# EAGLE library part LT3474-1 (library PowerProducts)
Step-Down 1A LED Driver
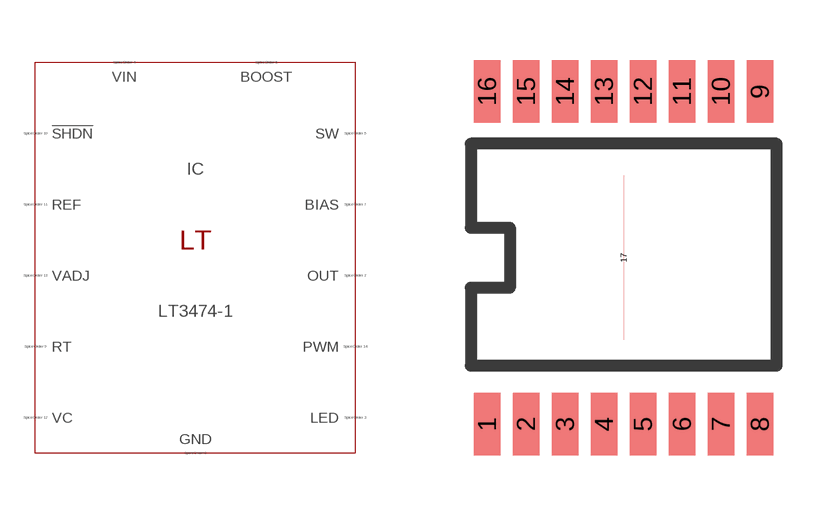
[diagram p39: symbol with the pads of TSSOP16BA(FE); footprint TSSOP16BA(FE)]

Designator prefix IC

## LT3474-1 (SPICEMODEL: LT1762.lib; SPICEPREFIX: X; VALUE2: LT1762)  [TSSOP16BA(FE)]
2  OUT  pas
3  LED  pas
4  VIN  pas
5  SW  pas
6  BOOST  pas
7  BIAS  pas
8  GND  pas
9  RT  pas
10  !SHDN  pas
11  REF  pas
12  VC  pas
13  VADJ  pas
14  PWM  pas
15  GND  pas
17  GND  pas

## Footprint TSSOP16BA(FE) (pad centres in mm)
Package generated from: TSSOP16BA(FE).asc (!PADS-POWERPCB-V5.0-BASIC! DESIGN DATABASE ASCII FILE 1.0) with :import-pads-powerpcb-v5.ulp Version 1.0.1 at 04.10.2012 14:11:39
smd 0.66 x 1.575: 1 -3.413,-4.162; 2 -2.438,-4.162; 3 -1.462,-4.162; 4 -0.487,-4.162; 5 0.487,-4.162; 6 1.462,-4.162; 7 2.438,-4.162; 8 3.413,-4.162; 9 3.413,4.162; 10 2.438,4.162; 11 1.462,4.162; 12 0.487,4.162; 13 -0.487,4.162; 14 -1.462,4.162; 15 -2.438,4.162; 16 -3.413,4.162
smd 0 x 4.11: 17 0,0